# Altium footprint library PcbLib1.PcbLib: 7 footprints
Each footprint in its own frame and in the unit in brackets; x right, y up, seen from the top. Pads: shape width x height; smd on the part's side, far side on the other; paste and mask are expansions set on the pad; w line width, h text height; cw(c..) or ccw(c..) is an arc to the next point about the centre after c.
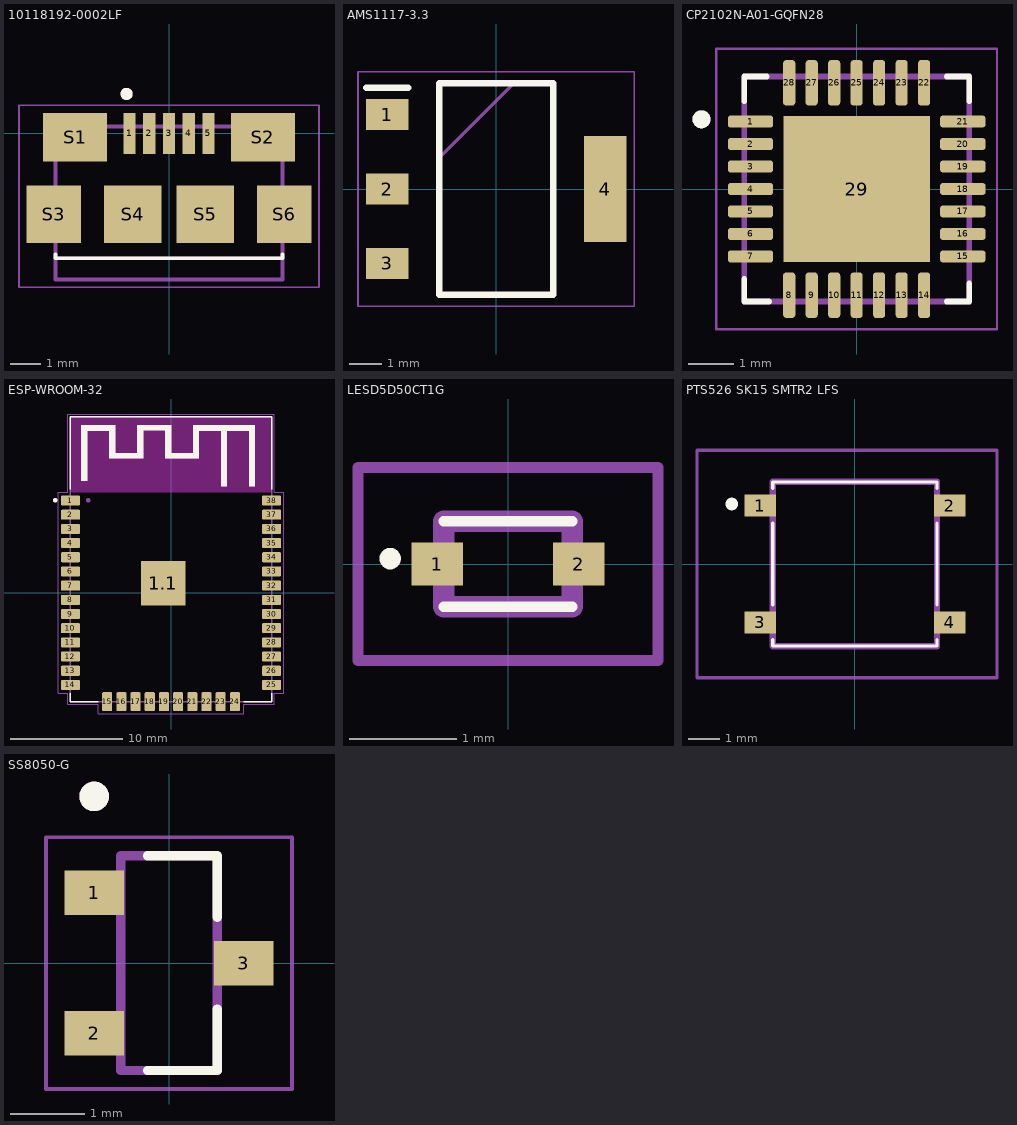
[diagram p0: the footprints below, top view; thin cyan lines are the x and y axes]

## 10118192-0002LF [mm] "MICRO USB CONN RCPT USB2.0 MICRO B SMD R/A"
height 2.8
pads (11):
  rect 0.4x1.35 smd: 1(-1.3,0) 2(-0.65,0) 3(0,0) 4(0.65,0) 5(1.3,0)
  rect 2.1x1.6 smd: S1(-3.1,-0.125) S2(3.1,-0.125)
  rect 1.8x1.9 smd: S3(-3.8,-2.675) S6(3.8,-2.675)
  rect 1.9x1.9 smd: S4(-1.2,-2.675) S5(1.2,-2.675)
Top Overlay:
  circle w0.2: c-1.4,1.3 r0.1
  lines w0.127: -3.75,-4 -3.75,-4.125 3.75,-4.125 3.75,-4
Mechanical 13:
  circle w0.2: c-1.4,1.3 r0.1
  lines w0.127: -3.75,-4.125 3.75,-4.125 ; -3.75,-4.125 -3.75,0.225 3.75,0.225 3.75,-4.125 ; -3.75,-4.125 -3.75,-4.825 3.75,-4.825 3.75,-4.125
Mechanical 15:
  lines w0.05: -4.95,-5.075 -4.95,0.925 4.95,0.925 4.95,-5.075 -4.95,-5.075
3D body "10118192-0002LF.step": height 2.7, standoff 0, extent -3.95,-4.8 3.95,0.3

## AMS1117-3.3 [mm] "IC LDO REG 3.3V 1A SOT223"
pads (4):
  rect 1.3x0.95 smd: 1(-3.35,2.29) 2(-3.35,0) 3(-3.35,-2.29)
  rect 1.3x3.25 smd: 4(3.35,0)
Top Overlay:
  lines w0.2: -4,3.115 -2.7,3.115 ; -1.752,-3.252 1.752,-3.252 1.752,3.252 -1.752,3.252 -1.752,-3.252
Mechanical 15:
  lines w0.1: -1.752,0.962 0.538,3.252 ; -1.752,-3.252 1.752,-3.252 1.752,3.252 -1.752,3.252 -1.752,-3.252
Mechanical 20:
  lines w0.05: -4.25,-3.605 4.25,-3.605 4.25,3.605 -4.25,3.605 -4.25,-3.605
3D body "AMS1117-3.3.stp": height 1.8, standoff 0, extent -3.5,-3.227 3.5,3.278

## CP2102N-A01-GQFN28 [mm] "IC BRIDGE USB TO UART 28QFN"
height 0.8
pads (29):
  rrect50% 1.01x0.27 smd: 1(-2.36,1.5) 2(-2.36,1) 3(-2.36,0.5) 4(-2.36,0) 5(-2.36,-0.5) 6(-2.36,-1) 7(-2.36,-1.5) 15(2.36,-1.5) 16(2.36,-1) 17(2.36,-0.5) 18(2.36,0) 19(2.36,0.5) 20(2.36,1) 21(2.36,1.5)
  rrect50% 0.27x1.01 smd: 8(-1.5,-2.36) 9(-1,-2.36) 10(-0.5,-2.36) 11(0,-2.36) 12(0.5,-2.36) 13(1,-2.36) 14(1.5,-2.36) 22(1.5,2.36) 23(1,2.36) 24(0.5,2.36) 25(0,2.36) 26(-0.5,2.36) 27(-1,2.36) 28(-1.5,2.36)
  rect 3.25x3.25 smd paste-3: 29(0,0)
Top Overlay:
  circle w0.2: c-3.45,1.55 r0.1
  lines w0.127: -2.5,-2 -2.5,-2.5 -1.95,-2.5 ; -2.5,1.95 -2.5,2.5 -2,2.5 ; 2,-2.5 2.5,-2.5 2.5,-2.1 ; 2,2.5 2.5,2.5 2.5,1.95
Top Paste:
  region: 1.331,-1.331 0.179,-1.331 0.179,-0.181 1.331,-0.181
  region: -0.18,-1.331 -1.331,-1.331 -1.331,-0.18 -0.18,-0.18
  region: -0.181,0.179 -1.331,0.179 -1.331,1.331 -0.181,1.331
  region: 1.33,0.18 0.18,0.18 0.18,1.33 1.33,1.33
Mechanical 13:
  circle w0.2: c-3.45,1.55 r0.1
  lines w0.127: -2.5,-2.5 -2.5,2.5 2.5,2.5 2.5,-2.5 -2.5,-2.5
Mechanical 15:
  lines w0.05: -3.12,-3.12 -3.12,3.12 3.12,3.12 3.12,-3.12 -3.12,-3.12
3D body "step_temp.STEP": height 0.78, standoff -0.02, extent -2.5,-2.5 2.5,2.5

## ESP-WROOM-32 [mm] "RF TXRX MODULE WIFI SMD"
pads (39):
  rrect22% 1.7x0.9 smd: 1(-9,8.255) 2(-9,6.985) 3(-9,5.715) 4(-9,4.445) 5(-9,3.175) 6(-9,1.905) 7(-9,0.635) 8(-9,-0.635) 9(-9,-1.905) 10(-9,-3.175) 11(-9,-4.445) 12(-9,-5.715) 13(-9,-6.985) 14(-9,-8.255) 25(9,-8.255) 26(9,-6.985) 27(9,-5.715) 28(9,-4.445) 29(9,-3.175) 30(9,-1.905) 31(9,-0.635) 32(9,0.635) 33(9,1.905) 34(9,3.175) 35(9,4.445) 36(9,5.715) 37(9,6.985) 38(9,8.255)
  rect 4x4 smd: 1.1(-0.7,0.845)
  rrect22% 0.9x1.7 smd: 15(-5.715,-9.755) 16(-4.445,-9.755) 17(-3.175,-9.755) 18(-1.905,-9.755) 19(-0.635,-9.755) 20(0.635,-9.755) 21(1.905,-9.755) 22(3.175,-9.755) 23(4.445,-9.755) 24(5.715,-9.755)
Top Overlay:
  circle w0.2: c-10.365,8.275 r0.1
  region: -7.5,10.529 -8.022,10.529 -8.022,15 -7.5,15
  region: -5,14.516 -8.009,14.516 -8.009,15 -5,15
  region: -5,12.047 -5.522,12.047 -5.522,14.5 -5,14.5
  region: -2.5,12.018 -5.508,12.018 -5.508,12.5 -2.5,12.5
  region: -2.5,12.041 -3.01,12.041 -3.01,14.5 -2.5,14.5
  region: 0,14.549 -3.01,14.549 -3.01,15 0,15
  region: 0,12.049 -0.502,12.049 -0.502,14.5 0,14.5
  region: 2.5,12.05 -0.502,12.05 -0.502,12.5 2.5,12.5
  region: 2.5,12.053 2.009,12.053 2.009,14.5 2.5,14.5
  region: 7.5,14.514 2.012,14.514 2.012,15 7.5,15
  region: 7.5,10.03 7.021,10.03 7.021,15 7.5,15
  region: 5,10.031 4.514,10.031 4.514,15 5,15
  region: 7.5,9.526 7.019,9.526 7.019,10 7.5,10
  region: 5,9.517 4.508,9.517 4.508,10 5,10
  region: -7.5,10.025 -8.02,10.025 -8.02,10.5 -7.5,10.5
  region: 2.5,13.554 2.008,13.554 2.008,15 2.5,15
  lines w0.127: -9,-9 -9,-9.75 -6.5,-9.75 ; -9,9.25 -9,15.75 9,15.75 9,9.25 ; 6.5,-9.75 9,-9.75 9,-9
Keep-Out Layer:
  region: 9,9.012 -9.012,9.012 -9.012,15.75 9,15.75
  region: 9,9.026 -9.026,9.026 -9.026,15.75 9,15.75
Mechanical 13:
  circle w0.2: c-7.425,8.275 r0.1
  region: -7.5,10.55 -8.038,10.55 -8.038,15 -7.5,15
  region: -5,14.574 -8.041,14.574 -8.041,15 -5,15
  region: -5,12.04 -5.518,12.04 -5.518,14.5 -5,14.5
  region: -2.5,12.034 -5.516,12.034 -5.516,12.5 -2.5,12.5
  region: -2.5,12.041 -3.01,12.041 -3.01,14.5 -2.5,14.5
  region: 0,14.531 -3.006,14.531 -3.006,15 0,15
  region: 0,12.04 -0.502,12.04 -0.502,14.5 0,14.5
  region: 2.5,12.012 -0.501,12.012 -0.501,12.5 2.5,12.5
  region: 2.5,12.046 2.008,12.046 2.008,14.5 2.5,14.5
  region: 7.5,14.541 2.015,14.541 2.015,15 7.5,15
  region: 7.5,10.037 7.026,10.037 7.026,15 7.5,15
  region: 5,10.033 4.515,10.033 4.515,15 5,15
  region: 7.5,9.529 7.022,9.529 7.022,10 7.5,10
  region: 5,9.548 4.523,9.548 4.523,10 5,10
  region: -7.5,10.033 -8.027,10.033 -8.027,10.5 -7.5,10.5
  region: 2.5,13.551 2.008,13.551 2.008,15 2.5,15
  lines w0.127: -9,-9.755 9,-9.755 9,15.745 -9,15.745 -9,-9.755
Mechanical 15:
  lines w0.05: -10.1,-9 -9.25,-9 -9.25,-10 -6.5,-10 -6.5,-10.855 6.5,-10.855 6.5,-10 9.25,-10 9.25,-9 10.1,-9 10.1,9 9.25,9 9.25,16 -9.25,16 -9.25,9 -10.1,9 -10.1,-9
3D body "step_temp.STEP": height 3.25, standoff 0, extent -8.958,-9.677 9.042,15.823

## LESD5D50CT1G [mm] "Transient Voltage Suppressors for ESD Protection"
pads (2):
  rect 0.48x0.4 smd: 1(-0.66,0) 2(0.66,0)
Top Overlay:
  lines w0.1: -0.6,-0.4 0.6,-0.4 ; -0.6,0.4 0.6,0.4 ; -1.1,0 ccw(c-1.1,0.05) -1.1,0.1 ccw(c-1.1,0.05) -1.1,0
Mechanical 15:
  lines w0.2: -0.6,-0.4 -0.6,0.4 0.6,0.4 0.6,-0.4 -0.6,-0.4
Mechanical 20:
  lines w0.1: -1.4,-0.9 -1.4,0.9 1.4,0.9 1.4,-0.9 -1.4,-0.9
3D body "LESD5D5.0CT1G.stp": height 0.6, standoff 0, extent -0.8,-0.399 0.8,0.399

## PTS526 SK15 SMTR2 LFS [mm] "SWITCH TACTILE SPST-NO 0.05A 12V"
pads (4):
  rect 1x0.7 smd: 1(-3,1.85) 2(3,1.85) 3(-3,-1.85) 4(3,-1.85)
Top Overlay:
  lines w0.1: -2.6,-2.4 -2.6,-2.6 2.6,-2.6 2.6,-2.4 ; -2.6,-1.3 -2.6,1.3 ; -2.6,2.4 -2.6,2.6 2.6,2.6 2.6,2.4 ; 2.6,-1.3 2.6,1.3
  lines w0.2: -4,1.9 cw(c-3.9,1.9) -3.8,1.9 cw(c-3.9,1.9) -4,1.9
Mechanical 15:
  lines w0.2: -2.6,-2.6 -2.6,2.6 2.6,2.6 2.6,-2.6 -2.6,-2.6
Mechanical 20:
  lines w0.1: -5,-3.6 -5,3.6 4.5,3.6 4.5,-3.6 -5,-3.6
3D body "PTS526_SK15_SMTR2_LFS.stp": height 1.56, standoff 0.01, extent -3.2,-2.6 3.2,2.6

## SS8050-G [mm] "TRANS NPN 25V 1.5A SOT23-3"
height 1.05
pads (3):
  rect 0.8x0.6 smd: 1(-1.01,0.95) 2(-1.01,-0.95) 3(1.01,0)
Top Overlay:
  circle w0.2: c-1.01,2.25 r0.1
  lines w0.127: -0.29,-1.45 0.65,-1.45 0.65,-0.62 ; -0.29,1.45 0.65,1.45 0.65,0.62
Mechanical 13:
  circle w0.2: c-1.01,2.25 r0.1
  lines w0.127: -0.65,-1.45 -0.65,1.45 0.65,1.45 0.65,-1.45 -0.65,-1.45
Mechanical 15:
  lines w0.05: -1.66,-1.7 1.66,-1.7 1.66,1.7 -1.66,1.7 -1.66,-1.7
3D body "SS8050-G.step": height 1.14, standoff 0, extent -1.2,-1.448 1.2,1.448